# Altium footprint library OS-2024-Badge-PCB-REV1.PcbLib: 23 footprints (part 1 of 2)
Each footprint in its own frame and in the unit in brackets; x right, y up, seen from the top. Pads: shape width x height; smd on the part's side, far side on the other; paste and mask are expansions set on the pad; w line width, h text height; cw(c..) or ccw(c..) is an arc to the next point about the centre after c.
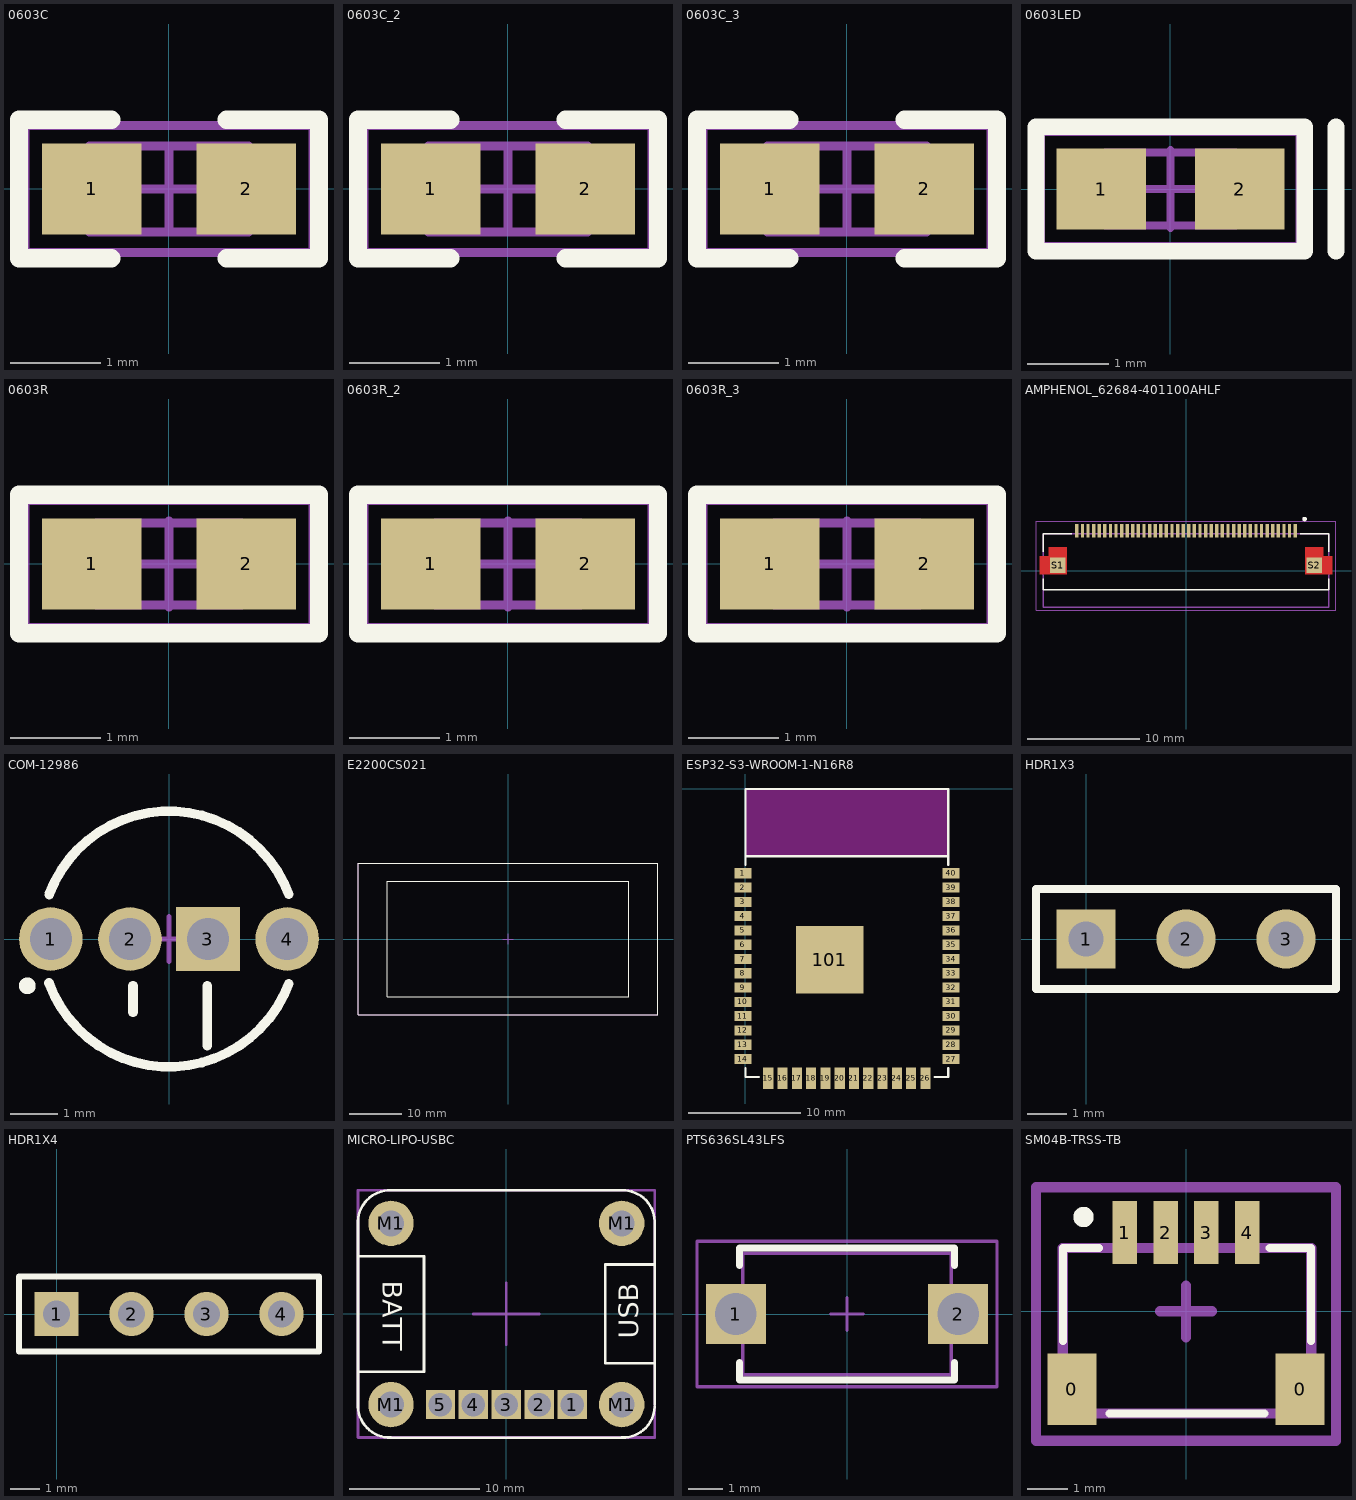
[diagram p0: the footprints below, top view; thin cyan lines are the x and y axes]

## 0603C [mm] "Chip Capacitor, Body 1.6x0.8mm, IPC High Density"
height 1.3
pads (2):
  rect 1.1x1 smd: 1(-0.85,0) 2(0.85,0)
Top Overlay:
  lines w0.203: -0.635,-0.762 -1.651,-0.762 -1.651,0.762 -0.635,0.762 ; 0.635,-0.762 1.651,-0.762 1.651,0.762 0.635,0.762
Mechanical 13:
  lines w0.1: -0.875,-0.475 0.875,-0.475 0.875,0.475 -0.875,0.475 -0.875,-0.475
Mechanical 15:
  lines w0.1: -0.475,0 0.475,0 ; 0,-0.475 0,0.475 ; -1.587,-0.699 1.587,-0.699 1.587,0.699 -1.587,0.699 -1.587,-0.699
3D body: height 1.3, standoff 0, extent -0.875,-0.475 0.875,0.475

## 0603C_2 [mm]
pads (2):
  rect 1.1x1 smd: 1(-0.85,0) 2(0.85,0)
Top Overlay:
  lines w0.203: -0.635,-0.762 -1.651,-0.762 -1.651,0.762 -0.635,0.762 ; 0.635,-0.762 1.651,-0.762 1.651,0.762 0.635,0.762
Mechanical 13:
  lines w0.1: -0.875,-0.475 -0.875,0.475 0.875,0.475 0.875,-0.475 -0.875,-0.475
Mechanical 15:
  lines w0.1: -0.475,0 0.475,0 ; 0,-0.475 0,0.475 ; -1.587,-0.699 -1.587,0.699 1.587,0.699 1.587,-0.699 -1.587,-0.699
3D body: height 1.3, standoff 0, extent -0.875,-0.475 0.875,0.475

## 0603C_3 [mm]
pads (2):
  rect 1.1x1 smd: 1(-0.85,0) 2(0.85,0)
Top Overlay:
  lines w0.203: -0.635,-0.762 -1.651,-0.762 -1.651,0.762 -0.635,0.762 ; 0.635,-0.762 1.651,-0.762 1.651,0.762 0.635,0.762
Mechanical 13:
  lines w0.1: -0.875,-0.475 -0.875,0.475 0.875,0.475 0.875,-0.475 -0.875,-0.475
Mechanical 15:
  lines w0.1: -0.475,0 0.475,0 ; 0,-0.475 0,0.475 ; -1.587,-0.699 -1.587,0.699 1.587,0.699 1.587,-0.699 -1.587,-0.699
3D body: height 1.3, standoff 0, extent -0.875,-0.475 0.875,0.475

## 0603LED [mm] "Chip Diode; Body 1.6 x 0.9 mm (LxW typ)"
height 0.55
pads (2):
  rect 1.1x1 smd: 1(-0.85,0) 2(0.85,0)
Top Overlay:
  lines w0.203: 2.032,-0.762 2.032,0.762 ; -1.651,-0.762 1.651,-0.762 1.651,0.762 -1.651,0.762 -1.651,-0.762
Mechanical 13:
  lines w0.1: -0.8,-0.45 -0.8,0.45 0.8,0.45 0.8,-0.45 -0.8,-0.45
Mechanical 15:
  lines w0.1: -0.475,0 0.475,0 ; 0,-0.475 0,0.475 ; -1.587,-0.699 -1.587,0.699 1.587,0.699 1.587,-0.699 -1.587,-0.699
3D body: height 0.55, standoff 0, extent -0.8,-0.45 0.8,0.45

## 0603R [mm] "Chip Resistor; Body 1.6 x 0.9 mm (LxW typ)"
height 0.55
pads (2):
  rect 1.1x1 smd: 1(-0.85,0) 2(0.85,0)
Top Overlay:
  lines w0.203: -1.651,-0.762 1.651,-0.762 1.651,0.762 -1.651,0.762 -1.651,-0.762
Mechanical 13:
  lines w0.1: -0.8,-0.45 0.8,-0.45 0.8,0.45 -0.8,0.45 -0.8,-0.45
Mechanical 15:
  lines w0.1: -0.475,0 0.475,0 ; 0,-0.475 0,0.475 ; -1.587,-0.699 1.587,-0.699 1.587,0.699 -1.587,0.699 -1.587,-0.699
3D body: height 0.55, standoff 0, extent -0.8,-0.45 0.8,0.45

## 0603R_2 [mm]
pads (2):
  rect 1.1x1 smd: 1(-0.85,0) 2(0.85,0)
Top Overlay:
  lines w0.203: -1.651,-0.762 1.651,-0.762 1.651,0.762 -1.651,0.762 -1.651,-0.762
Mechanical 13:
  lines w0.1: -0.8,-0.45 0.8,-0.45 0.8,0.45 -0.8,0.45 -0.8,-0.45
Mechanical 15:
  lines w0.1: -0.475,0 0.475,0 ; 0,-0.475 0,0.475 ; -1.587,-0.699 1.587,-0.699 1.587,0.699 -1.587,0.699 -1.587,-0.699
3D body: height 0.55, standoff 0, extent -0.8,-0.45 0.8,0.45

## 0603R_3 [mm]
pads (2):
  rect 1.1x1 smd: 1(-0.85,0) 2(0.85,0)
Top Overlay:
  lines w0.203: -1.651,-0.762 1.651,-0.762 1.651,0.762 -1.651,0.762 -1.651,-0.762
Mechanical 13:
  lines w0.1: -0.8,-0.45 0.8,-0.45 0.8,0.45 -0.8,0.45 -0.8,-0.45
Mechanical 15:
  lines w0.1: -0.475,0 0.475,0 ; 0,-0.475 0,0.475 ; -1.587,-0.699 1.587,-0.699 1.587,0.699 -1.587,0.699 -1.587,-0.699
3D body: height 0.55, standoff 0, extent -0.8,-0.45 0.8,0.45

## AMPHENOL_62684-401100AHLF [mm]
height 2
pads (42):
  rect 0.3x1.2 smd: 1(9.75,3.575) 2(9.25,3.575) 3(8.75,3.575) 4(8.25,3.575) 5(7.75,3.575) 6(7.25,3.575) 7(6.75,3.575) 8(6.25,3.575) 9(5.75,3.575) 10(5.25,3.575) 11(4.75,3.575) 12(4.25,3.575) 13(3.75,3.575) 14(3.25,3.575) 15(2.75,3.575) 16(2.25,3.575) 17(1.75,3.575) 18(1.25,3.575) 19(0.75,3.575) 20(0.25,3.575) 21(-0.25,3.575) 22(-0.75,3.575) 23(-1.25,3.575) 24(-1.75,3.575) 25(-2.25,3.575) 26(-2.75,3.575) 27(-3.25,3.575) 28(-3.75,3.575) 29(-4.25,3.575) 30(-4.75,3.575) 31(-5.25,3.575) 32(-5.75,3.575) 33(-6.25,3.575) 34(-6.75,3.575) 35(-7.25,3.575) 36(-7.75,3.575) 37(-8.25,3.575) 38(-8.75,3.575) 39(-9.25,3.575) 40(-9.75,3.575)
  rect 1.4x1.4 smd paste-2 mask+0: S1(-11.45,0.475) S2(11.45,0.475)
Top Layer:
  region: -10.65,-0.325 -13.05,-0.325 -13.05,1.275 -12.25,1.275 -12.25,2.075 -10.65,2.075
  region: 12.25,1.275 13.05,1.275 13.05,-0.325 10.65,-0.325 10.65,2.075 12.25,2.075
Top Overlay:
  circle w0.2: c10.601,4.611 r0.1
  lines w0.127: -12.75,-0.745 -12.75,-1.725 12.75,-1.725 12.75,-0.745 ; -12.75,1.695 -12.75,3.275 -10.22,3.275 ; 10.22,3.275 12.75,3.275 12.75,1.695
Top Paste:
  region: 12.25,1.275 13.05,1.275 13.05,-0.325 10.65,-0.325 10.65,2.075 12.25,2.075
  region: -10.65,-0.325 -13.05,-0.325 -13.05,1.275 -12.25,1.275 -12.25,2.075 -10.65,2.075
Top Solder:
  region: 12.35,1.375 13.15,1.375 13.15,-0.425 10.55,-0.425 10.55,2.175 12.35,2.175
  region: -10.55,-0.425 -13.15,-0.425 -13.15,1.375 -12.35,1.375 -12.35,2.175 -10.55,2.175
Mechanical 13:
  circle w0.2: c10.601,4.611 r0.1
  lines w0.127: -12.75,-3.275 -12.75,3.275 12.75,3.275 12.75,-3.275 -12.75,-3.275
Mechanical 15:
  lines w0.05: -13.4,-3.525 13.4,-3.525 13.4,4.425 -13.4,4.425 -13.4,-3.525
3D body "step_temp.STEP": height 2, standoff 0, extent -12.75,-2.5 12.75,3.1

## COM-12986 [mil] "ADDRESS LED DISCR SERIAL RGB 5PC"
height 196.85
pads (4):
  round 53 hole 35: 1(-98.43,0) 2(-32.48,0) 4(98.43,0)
  rect 53x53 hole 35: 3(32.48,0)
Top Overlay:
  circle w8: c-118,-39 r3
  lines w7.99: -30,-61 -30,-39 ; 32,-89 32,-39
  lines w8: -99.97,-36.62 ccw(c0,0) 99.73,-37.27 ; -99.85,36.94 cw(c0,0) 99.73,37.27
Mechanical 15:
  lines w3.94: -18.7,0 18.7,0 ; 0,-18.7 0,18.7

## E2200CS021 [mm] "E2200CS021 DISPLAY 2.0\" B&W AURORA MB EC"
height 1
Top Overlay:
  lines w0.203: -28.5,-14.4 28.5,-14.4 28.5,14.4 -28.5,14.4 -28.5,-14.4 ; -22.9,-11 22.9,-11 22.9,11 -22.9,11 -22.9,-11
Mechanical 13:
  lines w0.203: -28.5,-14.4 28.5,-14.4 28.5,14.4 -28.5,14.4 -28.5,-14.4
Mechanical 15:
  lines w0.203: -1,0 1,0 ; 0,-1 0,1
3D body: height 1, standoff 0, extent -28.5,-14.4 28.5,14.4

## ESP32-S3-WROOM-1-N16R8 [mm] "ESP32-S3-WROOM-1-N16R8"
height 3.1
pads (41):
  rect 1.5x0.9 smd: 1(-0.225,-7.493) 2(-0.225,-8.763) 3(-0.225,-10.033) 4(-0.225,-11.303) 5(-0.225,-12.573) 6(-0.225,-13.843) 7(-0.225,-15.113) 8(-0.225,-16.383) 9(-0.225,-17.653) 10(-0.225,-18.923) 11(-0.225,-20.193) 12(-0.225,-21.463) 13(-0.225,-22.733) 14(-0.225,-24.003) 27(18.284,-24.003) 28(18.284,-22.733) 29(18.284,-21.463) 30(18.284,-20.193) 31(18.284,-18.923) 32(18.284,-17.653) 33(18.284,-16.383) 34(18.284,-15.113) 35(18.284,-13.843) 36(18.284,-12.573) 37(18.284,-11.303) 38(18.284,-10.033) 39(18.284,-8.763) 40(18.284,-7.493)
  rect 0.9x1.9 smd paste-0.686: 15(2.03,-25.718) 16(3.3,-25.718) 17(4.57,-25.718) 18(5.84,-25.718) 19(7.11,-25.718) 20(8.38,-25.718) 21(9.65,-25.718) 22(10.92,-25.718) 23(12.19,-25.718) 24(13.46,-25.718)
  rect 0.9x1.9 smd: 25(14.73,-25.718) 26(16,-25.718)
  rect 6x6 smd paste-3.048: 101(7.5,-15.2)
Top Overlay:
  lines w0.203: 0,-24.8 0,-25.6 1.2,-25.6 ; 0,-6.731 0,0 18.034,0 18.034,-6.731 ; 0,-5.969 18.034,-5.969 ; 16.8,-25.6 18.034,-25.6 18.034,-24.8
Keep-Out Layer:
  rectangle: 0,-5.969 18.034,0

## HDR1X3 [mm] "Connector; Header; 3 Position"
pads (3):
  rect 1.5x1.5 hole 0.9: 1(0,0)
  round 1.5 hole 0.9: 2(2.54,0) 3(5.08,0)
Top Overlay:
  lines w0.2: -1.27,-1.27 6.35,-1.27 6.35,1.27 -1.27,1.27 -1.27,-1.27

## HDR1X4 [mm] "Connector; Header; 4 Position"
pads (4):
  rect 1.5x1.5 hole 0.9: 1(0,0)
  round 1.5 hole 0.9: 2(2.54,0) 3(5.08,0) 4(7.62,0)
Top Overlay:
  lines w0.2: -1.27,-1.27 -1.27,1.27 8.89,1.27 8.89,-1.27 -1.27,-1.27

## MICRO-LIPO-USBC [mm] "Adafruit MicroLipo USB Charger"
height 3
pads (9):
  rect 2.257x2.257 hole 1.8: 1(5.08,-6.985) 2(2.54,-6.985) 3(0,-6.985) 4(-2.54,-6.985) 5(-5.08,-6.985)
  round 3.5 hole 2: M1(-8.89,-6.985) M1(-8.89,6.985) M1(8.89,-6.985) M1(8.89,6.985)
Top Overlay:
  lines w0.203: -11.43,-4.445 -6.35,-4.445 -6.35,4.445 -11.43,4.445 ; -8.936,9.528 8.89,9.529 ; -8.89,-9.525 cw(c-8.969,-7.064) -11.43,-7.144 -11.43,7.144 cw(c-8.969,7.064) -8.89,9.525 ; -8.867,-9.527 8.937,-9.539 ; 8.89,-9.525 ccw(c8.969,-7.064) 11.43,-7.144 ; 8.89,9.525 cw(c8.969,7.064) 11.43,7.144 11.43,-6.985 ; 11.43,-3.81 7.62,-3.81 7.62,3.81 11.43,3.81
  text "USB" at 10.16,-1.905 h1.52
  text "BATT" at -9.525,2.54 h1.52
Mechanical 15:
  lines w0.203: -2.54,0 2.54,0 ; 0,-2.381 0,2.381 ; -11.43,-9.525 -11.43,9.525 11.43,9.525 11.43,-9.525 -11.43,-9.525

## PTS636SL43LFS [mm] "Tactile Switch SPST-NO Top Actuated Through Hole"
height 5
pads (2):
  rect 1.727x1.727 hole 1.2: 1(-3.2,0) 2(3.2,0)
Top Overlay:
  lines w0.203: -3.1,-1.4 -3.1,-1.9 3.1,-1.9 3.1,-1.4 ; -3.1,1.4 -3.1,1.9 3.1,1.9 3.1,1.4
Mechanical 13:
  lines w0.1: -3,-1.75 -3,1.75 3,1.75 3,-1.75 -3,-1.75
Mechanical 15:
  lines w0.1: -0.475,0 0.475,0 ; 0,-0.475 0,0.475 ; -4.318,-2.1 -4.318,2.1 4.318,2.1 4.318,-2.1 -4.318,-2.1
3D body "TL3302AFxxxQJ.stp": height 5, standoff 0.5, extent -3.38,-1.75 3.38,1.75

## SM04B-TRSS-TB [mm] "CONN HEADER SMD R/A 4POS 1MM"
height 3
pads (6):
  rect 1.2x1.749 smd: 0(-2.8,-1.912) 0(2.8,-1.912)
  rect 0.6x1.55 smd: 1(-1.5,1.938) 2(-0.5,1.938) 3(0.5,1.938) 4(1.5,1.938)
Top Overlay:
  circle w0.25: c-2.516,2.319 r0.125
  lines w0.2: -3.024,-0.729 -3.024,1.557 -2.135,1.557 ; -1.881,-2.507 1.929,-2.507 ; 2.056,1.557 3.072,1.557 3.072,-0.729
Mechanical 13:
  lines w0.254: -3.024,-2.507 3.072,-2.507 3.072,1.557 -3.024,1.557 -3.024,-2.507
Mechanical 15:
  lines w0.254: -0.635,0 0.635,0 ; 0,-0.635 0,0.635 ; -3.683,-3.175 3.683,-3.175 3.683,3.048 -3.683,3.048 -3.683,-3.175
3D body: height 6.25, standoff 0, extent -3.024,-2.507 3.072,1.557